# EAGLE library part TI74_CONN (library ti74)
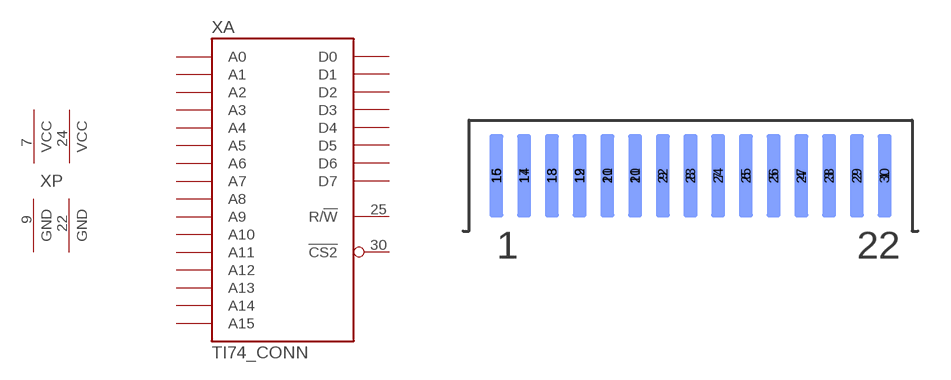
[diagram p0: symbol with the pads of MA050-15-2SHORT; footprint MA050-15-2SHORT]

Designator prefix X; gates A=TI74_CONN P=PWR2-GND2

## TI74_CONN  [MA050-15-2SHORT]
7  P:VCC  pwr
9  P:GND  pwr
22  P:GND  pwr
24  P:VCC_RAM  pwr
25  A:R/!W
30  A:!CS2

## Footprint MA050-15-2SHORT (pad centres in mm)
smd 0.635 x 3.81: 1 8.89,0; 2 7.62,0; 3 6.35,0; 4 5.08,0; 5 3.81,0; 6 2.54,0; 7 1.27,0; 8 0,0; 9 -1.27,0; 10 -2.54,0; 11 -3.81,0; 12 -5.08,0; 13 -6.35,0; 14 -7.62,0; 15 -8.89,0
smd 0.635 x 3.81 bottom: 16 -8.89,0; 17 -7.62,0; 18 -6.35,0; 19 -5.08,0; 20 -3.81,0; 21 -2.54,0; 22 -1.27,0; 23 0,0; 24 1.27,0; 25 2.54,0; 26 3.81,0; 27 5.08,0; 28 6.35,0; 29 7.62,0; 30 8.89,0